# Altium footprint library IC_Silicon_Laboratories_CP2102-GMR_eec_0.PcbLib: 1 footprints
Each footprint in its own frame and in the unit in brackets; x right, y up, seen from the top. Pads: shape width x height; smd on the part's side, far side on the other; paste and mask are expansions set on the pad; w line width, h text height; cw(c..) or ccw(c..) is an arc to the next point about the centre after c.
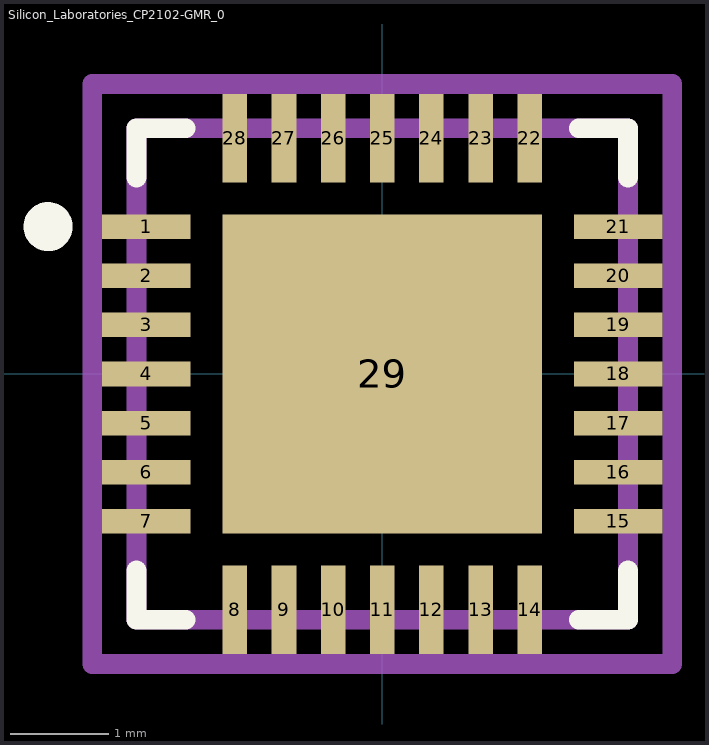
[diagram p0: the footprint, top view; thin cyan lines are the x and y axes]

## Silicon_Laboratories_CP2102-GMR_0 [mm]
pads (29):
  rect 0.9x0.25 smd paste+0 mask+0: 1(-2.4,1.5) 2(-2.4,1) 3(-2.4,0.5) 4(-2.4,0) 5(-2.4,-0.5) 6(-2.4,-1) 7(-2.4,-1.5) 15(2.4,-1.5) 16(2.4,-1) 17(2.4,-0.5) 18(2.4,0) 19(2.4,0.5) 20(2.4,1) 21(2.4,1.5)
  rect 0.25x0.9 smd paste+0 mask+0: 8(-1.5,-2.4) 9(-1,-2.4) 10(-0.5,-2.4) 11(0,-2.4) 12(0.5,-2.4) 13(1,-2.4) 14(1.5,-2.4) 22(1.5,2.4) 23(1,2.4) 24(0.5,2.4) 25(0,2.4) 26(-0.5,2.4) 27(-1,2.4) 28(-1.5,2.4)
  rect 3.25x3.25 smd paste-1000 mask+0: 29(0,0)
Top Overlay:
  circle w0.25: c-3.4,1.5 r0.125
  lines w0.2: -2.5,-2 -2.5,-2.5 -2,-2.5 ; -2.5,2 -2.5,2.5 -2,2.5 ; 2,-2.5 2.5,-2.5 2.5,-2 ; 2,2.5 2.5,2.5 2.5,2
Top Paste:
  rectangle: -1.55,0.65 -0.65,1.55
  rectangle: -0.45,0.65 0.45,1.55
  rectangle: 0.65,0.65 1.55,1.55
  rectangle: -1.55,-0.45 -0.65,0.45
  rectangle: -0.45,-0.45 0.45,0.45
  rectangle: 0.65,-0.45 1.55,0.45
  rectangle: -1.55,-1.55 -0.65,-0.65
  rectangle: -0.45,-1.55 0.45,-0.65
  rectangle: 0.65,-1.55 1.55,-0.65
Mechanical 10:
  lines w0.2: -2.95,-2.95 2.95,-2.95 2.95,2.95 -2.95,2.95 -2.95,-2.95
  text ".Designator" at 0,0 h1
Mechanical 12:
  lines w0.2: -2.5,-2.5 2.5,-2.5 2.5,2.5 -2.5,2.5 -2.5,-2.5
Mechanical 15:
  lines w0.1: -0.885,0 0.885,0 ; 0,-0.885 0,0.885
  lines w0.2: -2.95,-2.95 2.95,-2.95 2.95,2.95 -2.95,2.95 -2.95,-2.95
3D body "IC_Silicon_Laboratories_CP2102-GMR_eec.STEP": height 0.25, standoff 0, extent -2.95,-2.95 2.95,2.95